# Altium footprint library Interface.PcbLib: 28 footprints (part 1 of 2)
Each footprint in its own frame and in the unit in brackets; x right, y up, seen from the top. Pads: shape width x height; smd on the part's side, far side on the other; paste and mask are expansions set on the pad; w line width, h text height; cw(c..) or ccw(c..) is an arc to the next point about the centre after c.
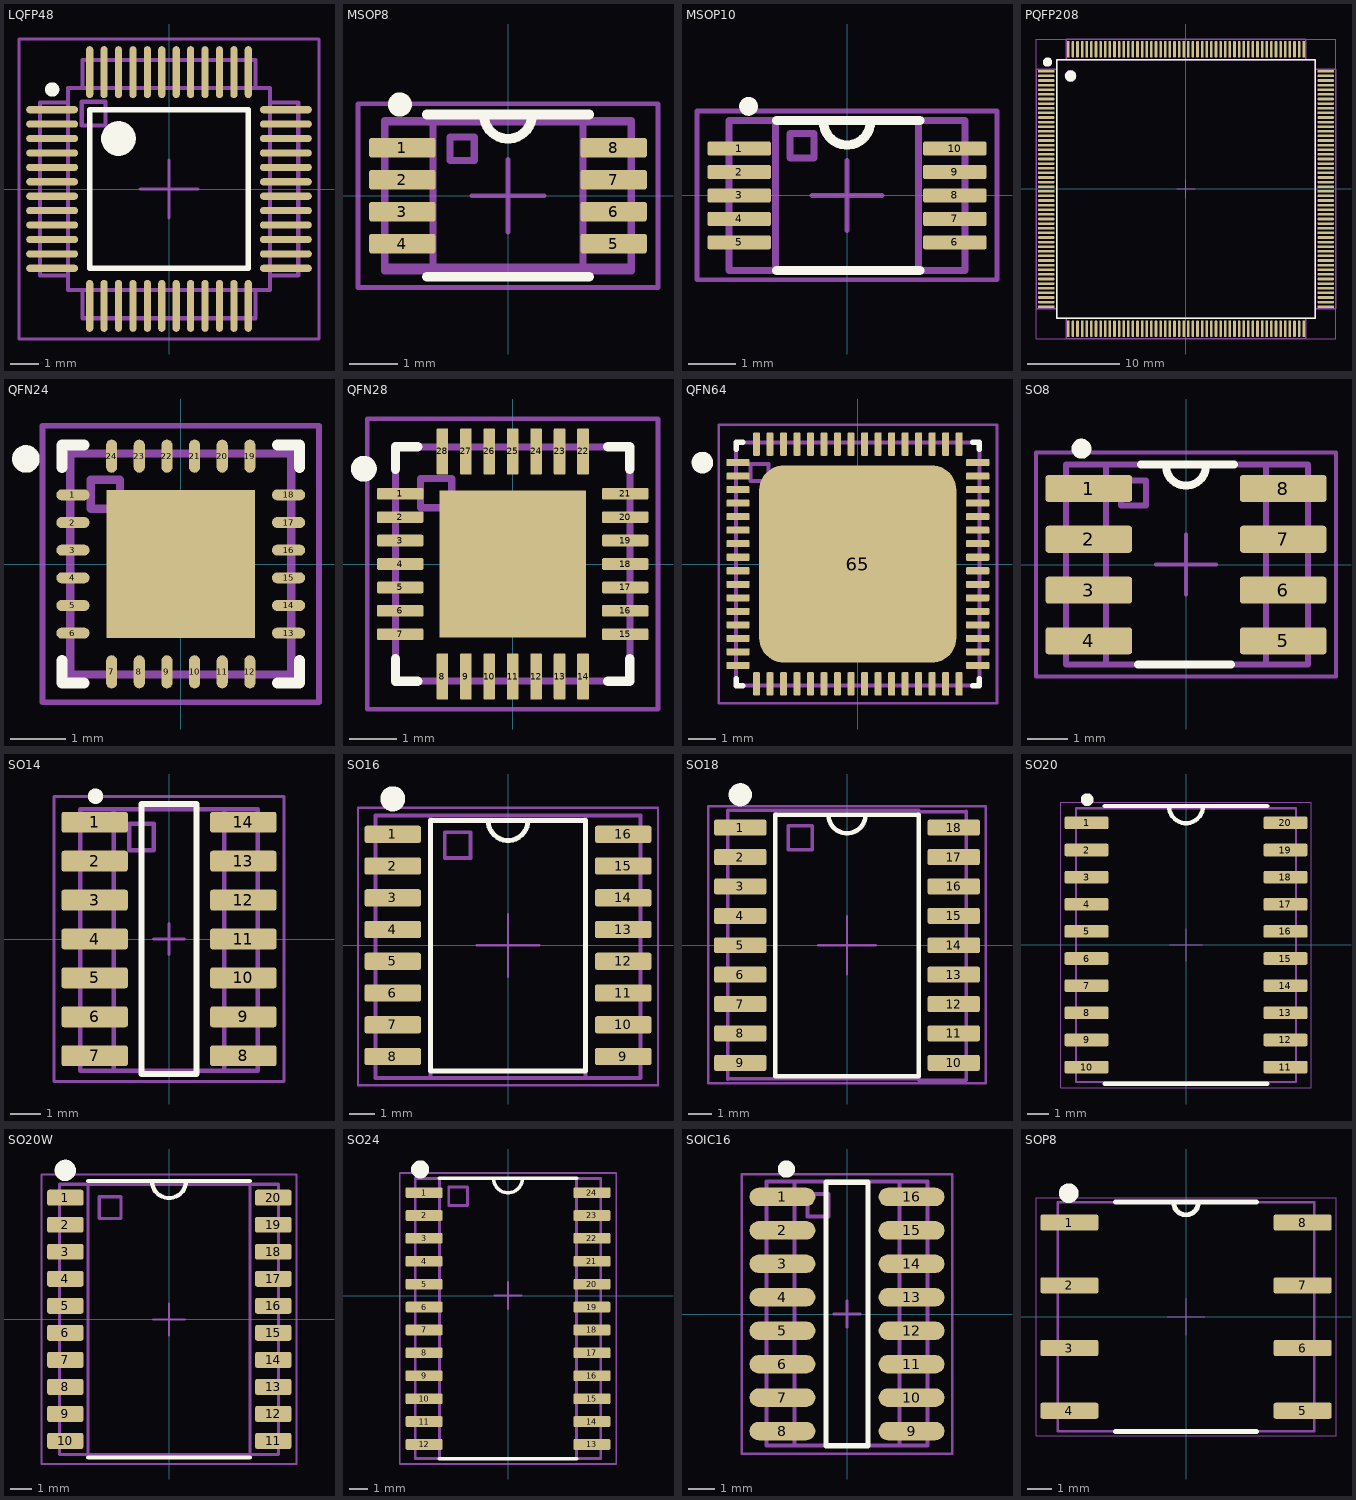
[diagram p0: the footprints below, top view; thin cyan lines are the x and y axes]

## LQFP48 [mm] "Thin QFP, 48-Leads, Body 7x7mm, Pitch 0.5mm, IPC Medium Density"
height 1.6
pads (48):
  oval 1.8x0.25 smd: 1(-4.05,2.75) 2(-4.05,2.25) 3(-4.05,1.75) 4(-4.05,1.25) 5(-4.05,0.75) 6(-4.05,0.25) 7(-4.05,-0.25) 8(-4.05,-0.75) 9(-4.05,-1.25) 10(-4.05,-1.75) 11(-4.05,-2.25) 12(-4.05,-2.75) 25(4.05,-2.75) 26(4.05,-2.25) 27(4.05,-1.75) 28(4.05,-1.25) 29(4.05,-0.75) 30(4.05,-0.25) 31(4.05,0.25) 32(4.05,0.75) 33(4.05,1.25) 34(4.05,1.75) 35(4.05,2.25) 36(4.05,2.75)
  oval 0.25x1.8 smd: 13(-2.75,-4.05) 14(-2.25,-4.05) 15(-1.75,-4.05) 16(-1.25,-4.05) 17(-0.75,-4.05) 18(-0.25,-4.05) 19(0.25,-4.05) 20(0.75,-4.05) 21(1.25,-4.05) 22(1.75,-4.05) 23(2.25,-4.05) 24(2.75,-4.05) 37(2.75,4.05) 38(2.25,4.05) 39(1.75,4.05) 40(1.25,4.05) 41(0.75,4.05) 42(0.25,4.05) 43(-0.25,4.05) 44(-0.75,4.05) 45(-1.25,4.05) 46(-1.75,4.05) 47(-2.25,4.05) 48(-2.75,4.05)
Top Overlay:
  circle w0.25: c-4.05,3.45 r0.125
  circle w0.6: c-1.75,1.75 r0.3
  lines w0.2: -2.75,-2.75 -2.75,2.75 2.75,2.75 2.75,-2.75 -2.75,-2.75
Mechanical 9:
  text ".Designator" at -4.55,6.35 h3.5
Mechanical 10:
  text ".Comment" at -2.65,-6.625 h2
Mechanical 11:
  lines w0.15: -3.5,-3 -4.475,-3 -4.475,3 -3.5,3 ; -3,-3.5 -3,-4.475 3,-4.475 3,-3.5 ; -3,3.5 -3,4.475 3,4.475 3,3.5 ; 3.5,-3 4.475,-3 4.475,3 3.5,3 ; -3.5,-3.5 3.5,-3.5 3.5,3.5 -3.5,3.5 -3.5,-3.5 ; -3.025,2.2 -2.2,2.2 -2.2,3.025 -3.025,3.025 -3.025,2.2
Mechanical 15:
  lines w0.1: -1,0 1,0 ; 0,-1 0,1 ; -5.2,-5.2 5.2,-5.2 5.2,5.2 -5.2,5.2 -5.2,-5.2
3D body "vbh48a.stp": height 1.46, standoff -0.04, extent -4.507,-4.507 4.508,4.508

## MSOP8 [mil]
pads (8):
  rrect25% 54x16 smd: 1(-86,39) 2(-86,13) 3(-86,-13) 4(-86,-39) 5(86,-39) 6(86,-13) 7(86,13) 8(86,39)
Top Overlay:
  circle w9.84: c-87.95,74.17 r4.92
  lines w7.87: -66,-66 66,-66 ; -66,66 66,66 ; -19.68,66 ccw(c0,66) 19.68,66
Mechanical 9:
  text ".Designator" at -137.8,108.27 h137.8
Mechanical 10:
  text ".Comment" at -98.43,-127.95 h78.74
Mechanical 11:
  lines w5.91: -61,-61 61,-61 ; -61,-61 -61,61 ; -61,-61 61,-61 ; -61,-61 -100.37,-61 -100.37,61 -61,61 ; -61,61 -12,61 ; -61,61 -12,61 ; -12,61 12,61 ; -12,61 12,61 ; 12,61 61,61 ; 12,61 61,61 ; 61,-61 61,61 ; 61,-61 61,61 ; 61,-61 100.37,-61 100.37,61 61,61 ; -100,-58.11 100,-58.11 100,60 -100,60 -100,-58.11 ; -47.24,28.54 -47.24,47.74 -27.56,47.74 -27.56,28.54 -47.24,28.54
Mechanical 15:
  lines w3.94: -29.53,0 29.53,0 ; 0,-29.53 0,29.53 ; -122.05,-74.8 -122.05,74.8 122.05,74.8 122.05,-74.8 -122.05,-74.8
3D body "User Library-uMAX8.STEP": height 37.4, standoff 0, extent -99.38,-58.1 97.5,60.01

## MSOP10 [mm]
height 0.9
pads (10):
  rrect25% 1.35x0.3 smd: 1(-2.3,1) 2(-2.3,0.5) 3(-2.3,0) 4(-2.3,-0.5) 5(-2.3,-1) 6(2.3,-1) 7(2.3,-0.5) 8(2.3,0) 9(2.3,0.5) 10(2.3,1)
Top Overlay:
  circle w0.2: c-2.1,1.9 r0.1
  lines w0.2: -1.5,-1.6 1.55,-1.6 ; -1.5,1.6 1.55,1.6 ; -0.5,1.575 ccw(c0,1.575) 0.5,1.575
Mechanical 9:
  text ".Designator" at -5.4,2.7 h3.5
Mechanical 10:
  text ".Comment" at -2.95,-3.4 h2
Mechanical 11:
  lines w0.15: -1.525,-1.6 -1.525,1.6 ; 1.525,-1.6 1.525,1.6 ; -2.515,-1.6 -2.515,1.6 2.515,1.6 2.515,-1.6 -2.515,-1.6 ; -1.213,0.8 -1.213,1.325 -0.7,1.325 -0.7,0.8 -1.213,0.8
Mechanical 15:
  lines w0.1: -0.75,0 0.75,0 ; 0,-0.75 0,0.75 ; -3.2,-1.8 -3.2,1.8 3.2,1.8 3.2,-1.8 -3.2,-1.8
3D body "User Library-MSOP10-1.step": height 1.09, standoff 0, extent -2.575,-1.6 2.575,1.6

## PQFP208 [mm] "Thin QFP, 48-Leads, Body 7x7mm, Pitch 0.5mm, IPC Medium Density"
height 1.6
pads (208):
  rrect25% 1.74x0.28 smd: 1(-15.14,12.75) 2(-15.14,12.25) 3(-15.14,11.75) 4(-15.14,11.25) 5(-15.14,10.75) 6(-15.14,10.25) 7(-15.14,9.75) 8(-15.14,9.25) 9(-15.14,8.75) 10(-15.14,8.25) 11(-15.14,7.75) 12(-15.14,7.25) 13(-15.14,6.75) 14(-15.14,6.25) 15(-15.14,5.75) 16(-15.14,5.25) 17(-15.14,4.75) 18(-15.14,4.25) 19(-15.14,3.75) 20(-15.14,3.25) 21(-15.14,2.75) 22(-15.14,2.25) 23(-15.14,1.75) 24(-15.14,1.25) 25(-15.14,0.75) 26(-15.14,0.25) 27(-15.14,-0.25) 28(-15.14,-0.75) 29(-15.14,-1.25) 30(-15.14,-1.75) 31(-15.14,-2.25) 32(-15.14,-2.75) 33(-15.14,-3.25) 34(-15.14,-3.75) 35(-15.14,-4.25) 36(-15.14,-4.75) 37(-15.14,-5.25) 38(-15.14,-5.75) 39(-15.14,-6.25) 40(-15.14,-6.75) 41(-15.14,-7.25) 42(-15.14,-7.75) 43(-15.14,-8.25) 44(-15.14,-8.75) 45(-15.14,-9.25) 46(-15.14,-9.75) 47(-15.14,-10.25) 48(-15.14,-10.75) 49(-15.14,-11.25) 50(-15.14,-11.75) 51(-15.14,-12.25) 52(-15.14,-12.75) 105(15.14,-12.75) 106(15.14,-12.25) 107(15.14,-11.75) 108(15.14,-11.25) 109(15.14,-10.75) 110(15.14,-10.25) 111(15.14,-9.75) 112(15.14,-9.25) 113(15.14,-8.75) 114(15.14,-8.25) 115(15.14,-7.75) 116(15.14,-7.25) 117(15.14,-6.75) 118(15.14,-6.25) 119(15.14,-5.75) 120(15.14,-5.25) 121(15.14,-4.75) 122(15.14,-4.25) 123(15.14,-3.75) 124(15.14,-3.25) 125(15.14,-2.75) 126(15.14,-2.25) 127(15.14,-1.75) 128(15.14,-1.25) 129(15.14,-0.75) 130(15.14,-0.25) 131(15.14,0.25) 132(15.14,0.75) 133(15.14,1.25) 134(15.14,1.75) 135(15.14,2.25) 136(15.14,2.75) 137(15.14,3.25) 138(15.14,3.75) 139(15.14,4.25) 140(15.14,4.75) 141(15.14,5.25) 142(15.14,5.75) 143(15.14,6.25) 144(15.14,6.75) 145(15.14,7.25) 146(15.14,7.75) 147(15.14,8.25) 148(15.14,8.75) 149(15.14,9.25) 150(15.14,9.75) 151(15.14,10.25) 152(15.14,10.75) 153(15.14,11.25) 154(15.14,11.75) 155(15.14,12.25) 156(15.14,12.75)
  rrect25% 0.28x1.74 smd: 53(-12.75,-15.14) 54(-12.25,-15.14) 55(-11.75,-15.14) 56(-11.25,-15.14) 57(-10.75,-15.14) 58(-10.25,-15.14) 59(-9.75,-15.14) 60(-9.25,-15.14) 61(-8.75,-15.14) 62(-8.25,-15.14) 63(-7.75,-15.14) 64(-7.25,-15.14) 65(-6.75,-15.14) 66(-6.25,-15.14) 67(-5.75,-15.14) 68(-5.25,-15.14) 69(-4.75,-15.14) 70(-4.25,-15.14) 71(-3.75,-15.14) 72(-3.25,-15.14) 73(-2.75,-15.14) 74(-2.25,-15.14) 75(-1.75,-15.14) 76(-1.25,-15.14) 77(-0.75,-15.14) 78(-0.25,-15.14) 79(0.25,-15.14) 80(0.75,-15.14) 81(1.25,-15.14) 82(1.75,-15.14) 83(2.25,-15.14) 84(2.75,-15.14) 85(3.25,-15.14) 86(3.75,-15.14) 87(4.25,-15.14) 88(4.75,-15.14) 89(5.25,-15.14) 90(5.75,-15.14) 91(6.25,-15.14) 92(6.75,-15.14) 93(7.25,-15.14) 94(7.75,-15.14) 95(8.25,-15.14) 96(8.75,-15.14) 97(9.25,-15.14) 98(9.75,-15.14) 99(10.25,-15.14) 100(10.75,-15.14) 101(11.25,-15.14) 102(11.75,-15.14) 103(12.25,-15.14) 104(12.75,-15.14) 157(12.75,15.14) 158(12.25,15.14) 159(11.75,15.14) 160(11.25,15.14) 161(10.75,15.14) 162(10.25,15.14) 163(9.75,15.14) 164(9.25,15.14) 165(8.75,15.14) 166(8.25,15.14) 167(7.75,15.14) 168(7.25,15.14) 169(6.75,15.14) 170(6.25,15.14) 171(5.75,15.14) 172(5.25,15.14) 173(4.75,15.14) 174(4.25,15.14) 175(3.75,15.14) 176(3.25,15.14) 177(2.75,15.14) 178(2.25,15.14) 179(1.75,15.14) 180(1.25,15.14) 181(0.75,15.14) 182(0.25,15.14) 183(-0.25,15.14) 184(-0.75,15.14) 185(-1.25,15.14) 186(-1.75,15.14) 187(-2.25,15.14) 188(-2.75,15.14) 189(-3.25,15.14) 190(-3.75,15.14) 191(-4.25,15.14) 192(-4.75,15.14) 193(-5.25,15.14) 194(-5.75,15.14) 195(-6.25,15.14) 196(-6.75,15.14) 197(-7.25,15.14) 198(-7.75,15.14) 199(-8.25,15.14) 200(-8.75,15.14) 201(-9.25,15.14) 202(-9.75,15.14) 203(-10.25,15.14) 204(-10.75,15.14) 205(-11.25,15.14) 206(-11.75,15.14) 207(-12.25,15.14) 208(-12.75,15.14)
Top Overlay:
  circle w0.6: c-12.5,12.25 r0.3
  circle w0.6: c-15,13.75 r0.2
  lines w0.2: -14,-14 -14,14 14,14 14,-14 -14,-14
Mechanical 7:
  circle w0.15: c-12.5,12.25 r0.559
  circle w0.15: c-12.5,12.25 r0.559
  lines w0.15: -14,-13 -16.25,-13 -16.25,13 -14,13 ; -13,-14 -13,-16.25 13,-16.25 13,-14 ; -13,14 -13,16.25 13,16.25 13,14 ; 14,-13 16.25,-13 16.25,13 14,13 ; -14,-14 -14,14 ; -14,-14 14,-14 ; -14,-14 -14,14 ; -14,-14 14,-14 ; -14,14 14,14 ; -14,14 14,14 ; 14,-14 14,14 ; 14,-14 14,14
Mechanical 9:
  text ".Designator" at -5.25,17.75 h3
Mechanical 10:
  text ".Comment" at -3.75,-18.25 h2
Mechanical 15:
  lines w0.1: -1,0 1,0 ; 0,-1 0,1 ; -16.25,-16.25 -16.25,16.25 16.25,16.25 16.25,-16.25 -16.25,-16.25
3D body "User Library-PQ208.STEP": height 4.15, standoff -0.08, extent -15.3,-15.3 15.3,15.3

## QFN24 [mm]
height 0.8
pads (25):
  oval 0.6x0.2 smd: 1(-1.95,1.25) 2(-1.95,0.75) 3(-1.95,0.25) 4(-1.95,-0.25) 5(-1.95,-0.75) 6(-1.95,-1.25) 13(1.95,-1.25) 14(1.95,-0.75) 15(1.95,-0.25) 16(1.95,0.25) 17(1.95,0.75) 18(1.95,1.25)
  oval 0.2x0.6 smd: 7(-1.25,-1.95) 8(-0.75,-1.95) 9(-0.25,-1.95) 10(0.25,-1.95) 11(0.75,-1.95) 12(1.25,-1.95) 19(1.25,1.95) 20(0.75,1.95) 21(0.25,1.95) 22(-0.25,1.95) 23(-0.75,1.95) 24(-1.25,1.95)
  rect 2.68x2.68 smd: ""(0,0)
Top Overlay:
  circle w0.25: c-2.8,1.9 r0.125
  lines w0.2: -2.15,-1.75 -2.15,-2.15 -1.75,-2.15 ; -2.15,1.75 -2.15,2.15 -1.75,2.15 ; 1.75,-2.15 2.15,-2.15 2.15,-1.75 ; 1.75,2.15 2.15,2.15 2.15,1.75
Mechanical 9:
  text ".Designator" at -4.4,3.2 h3.5
Mechanical 10:
  text ".Comment" at -2.675,-3.9 h2
Mechanical 11:
  lines w0.15: -2,-2 -2,2 2,2 2,-2 -2,-2 ; -1.625,1 -1.1,1 -1.1,1.525 -1.625,1.525 -1.625,1
Mechanical 15:
  lines w0.1: -0.5,0 0.5,0 ; 0,-0.5 0,0.5 ; -2.5,-2.5 -2.5,2.5 2.5,2.5 2.5,-2.5 -2.5,-2.5
3D body "User Library-QFN24_4x4x0_75_p0_5.step": height 0.75, standoff 0, extent -2.002,-2.002 2.002,2.002

## QFN28 [mm] "QFN, 28-Leads, Body 5,0x5,0mm (max), Pitch 0,50mm, IPC Medium Density"
height 1
pads (29):
  rrect25% 0.99x0.25 smd: 1(-2.4,1.5) 2(-2.4,1) 3(-2.4,0.5) 4(-2.4,0) 5(-2.4,-0.5) 6(-2.4,-1) 7(-2.4,-1.5) 15(2.4,-1.5) 16(2.4,-1) 17(2.4,-0.5) 18(2.4,0) 19(2.4,0.5) 20(2.4,1) 21(2.4,1.5)
  rrect25% 0.25x0.99 smd: 8(-1.5,-2.4) 9(-1,-2.4) 10(-0.5,-2.4) 11(0,-2.4) 12(0.5,-2.4) 13(1,-2.4) 14(1.5,-2.4) 22(1.5,2.4) 23(1,2.4) 24(0.5,2.4) 25(0,2.4) 26(-0.5,2.4) 27(-1,2.4) 28(-1.5,2.4)
  rect 3.13x3.13 smd: ""(0,0)
Top Overlay:
  circle w0.3: c-3.175,2.032 r0.125
  lines w0.2: -2.5,-2.025 -2.5,-2.5 -2.025,-2.5 ; -2.5,2.025 -2.5,2.5 -2.025,2.5 ; 2.025,-2.5 2.5,-2.5 2.5,-2.025 ; 2.025,2.5 2.5,2.5 2.5,2.025
Mechanical 9:
  text ".Designator" at -4.9,3.5 h3.5
Mechanical 10:
  text ".Comment" at -3.1,-4.5 h2
Mechanical 11:
  lines w0.15: -2.5,-2.5 -2.5,2.5 2.5,2.5 2.5,-2.5 -2.5,-2.5 ; -1.963,1.2 -1.963,1.825 -1.3,1.825 -1.3,1.2 -1.963,1.2
Mechanical 15:
  lines w0.1: -0.5,0 0.5,0 ; 0,-0.5 0,0.5 ; -3.1,-3.1 -3.1,3.1 3.1,3.1 3.1,-3.1 -3.1,-3.1
3D body "User Library-QFN28.step": height 0.9, standoff 0, extent -2.52,-2.52 2.52,2.52

## QFN64 [mm] "QFN, 28-Leads, Body 5,0x5,0mm (max), Pitch 0,50mm, IPC Medium Density"
height 1
pads (65):
  rrect25% 0.86x0.26 smd: 1(-4.435,3.75) 2(-4.435,3.25) 3(-4.435,2.75) 4(-4.435,2.25) 5(-4.435,1.75) 6(-4.435,1.25) 7(-4.435,0.75) 8(-4.435,0.25) 9(-4.435,-0.25) 10(-4.435,-0.75) 11(-4.435,-1.25) 12(-4.435,-1.75) 13(-4.435,-2.25) 14(-4.435,-2.75) 15(-4.435,-3.25) 16(-4.435,-3.75) 33(4.435,-3.75) 34(4.435,-3.25) 35(4.435,-2.75) 36(4.435,-2.25) 37(4.435,-1.75) 38(4.435,-1.25) 39(4.435,-0.75) 40(4.435,-0.25) 41(4.435,0.25) 42(4.435,0.75) 43(4.435,1.25) 44(4.435,1.75) 45(4.435,2.25) 46(4.435,2.75) 47(4.435,3.25) 48(4.435,3.75)
  rrect25% 0.26x0.86 smd: 17(-3.75,-4.435) 18(-3.25,-4.435) 19(-2.75,-4.435) 20(-2.25,-4.435) 21(-1.75,-4.435) 22(-1.25,-4.435) 23(-0.75,-4.435) 24(-0.25,-4.435) 25(0.25,-4.435) 26(0.75,-4.435) 27(1.25,-4.435) 28(1.75,-4.435) 29(2.25,-4.435) 30(2.75,-4.435) 31(3.25,-4.435) 32(3.75,-4.435) 49(3.75,4.435) 50(3.25,4.435) 51(2.75,4.435) 52(2.25,4.435) 53(1.75,4.435) 54(1.25,4.435) 55(0.75,4.435) 56(0.25,4.435) 57(-0.25,4.435) 58(-0.75,4.435) 59(-1.25,4.435) 60(-1.75,4.435) 61(-2.25,4.435) 62(-2.75,4.435) 63(-3.25,4.435) 64(-3.75,4.435)
  rrect25% 7.3x7.3 smd: 65(0,0)
Top Overlay:
  circle w0.4: c-5.75,3.75 r0.2
  lines w0.2: -4.5,-4.25 -4.5,-4.5 -4.25,-4.5 ; -4.5,4.25 -4.5,4.5 -4.25,4.5 ; 4.25,-4.5 4.5,-4.5 4.5,-4.25 ; 4.25,4.5 4.5,4.5 4.5,4.25
Top Paste:
  region: 1.565,-1.56 3.12,-1.56 3.12,-3.129 1.565,-3.129
  region: -0.782,-1.56 0.78,-1.56 0.78,-3.128 -0.782,-3.128
  region: -3.126,-1.56 -1.56,-1.56 -1.56,-3.126 -3.126,-3.126
  region: -3.125,3.12 -1.56,3.12 -1.56,1.563 -3.125,1.563
  region: -0.783,3.12 0.78,3.12 0.78,1.566 -0.783,1.566
  region: 1.566,3.12 3.12,3.12 3.12,1.566 1.566,1.566
  region: 1.565,0.78 3.12,0.78 3.12,-0.782 1.565,-0.782
  region: -3.124,0.78 -1.56,0.78 -1.56,-0.781 -3.124,-0.781
  region: -0.783,0.78 0.78,0.78 0.78,-0.783 -0.783,-0.783
Mechanical 7:
  lines w0.15: -4.5,-4.5 -4.5,4.5 ; -4.5,-4.5 4.5,-4.5 ; -4.5,-4.5 -4.5,4.5 ; -4.5,-4.5 4.5,-4.5 ; -4.5,4.5 4.5,4.5 ; -4.5,4.5 4.5,4.5 ; 4.5,-4.5 4.5,4.5 ; 4.5,-4.5 4.5,4.5 ; -3.963,3.075 -3.3,3.075 -3.3,3.7 -3.963,3.7 -3.963,3.075
Mechanical 9:
  text ".Designator" at -5,6.25 h3.5
Mechanical 10:
  text ".Comment" at -3,-7 h2
Mechanical 15:
  lines w0.1: -5.15,-5.15 -5.15,5.15 5.15,5.15 5.15,-5.15 -5.15,-5.15
3D body "User Library-ZM7300G Series.step": height 0.9, standoff 0, extent -4.49,-4.53 4.53,4.49

## SO8 [mm]
height 1.75
pads (8):
  rrect25% 2.17x0.68 smd: 1(-2.43,1.905) 2(-2.43,0.635) 3(-2.43,-0.635) 4(-2.43,-1.905) 5(2.43,-1.905) 6(2.43,-0.635) 7(2.43,0.635) 8(2.43,1.905)
Top Overlay:
  circle w0.25: c-2.615,2.9 r0.125
  lines w0.2: -1.2,-2.5 1.125,-2.5 ; -1.125,2.5 1.2,2.5 ; -0.5,2.475 ccw(c0,2.475) 0.5,2.475
Mechanical 9:
  text ".Designator" at -4.25,3.5 h3.5
Mechanical 10:
  text ".Comment" at -2.75,-4 h2
Mechanical 11:
  lines w0.15: -2,-2.5 -2,2.5 ; 2,-2.5 2,2.5 ; -3,-2.5 -3,2.5 3.05,2.5 3.05,-2.5 -3,-2.5 ; -1.625,1.475 -1,1.475 -1,2.1 -1.625,2.1 -1.625,1.475
Mechanical 15:
  lines w0.1: -0.75,0 0.75,0 ; 0,-0.75 0,0.75 ; -3.75,-2.8 3.75,-2.8 3.75,2.8 -3.75,2.8 -3.75,-2.8
3D body "SOIC-8.STEP": height 1.7, standoff 0, extent -3,-2.54 3,2.54

## SO14 [mm] "SOIC, 14-Leads, Body 8,65x3,90mm, Pitch 1,27mm, IPC Medium Density"
height 1.75
pads (14):
  rrect25% 2.17x0.68 smd: 1(-2.425,3.81) 2(-2.425,2.54) 3(-2.425,1.27) 4(-2.425,0) 5(-2.425,-1.27) 6(-2.425,-2.54) 7(-2.425,-3.81) 8(2.425,-3.81) 9(2.425,-2.54) 10(2.425,-1.27) 11(2.425,0) 12(2.425,1.27) 13(2.425,2.54) 14(2.425,3.81)
Top Overlay:
  circle w0.25: c-2.4,4.66 r0.125
  lines w0.2: -0.9,-4.4 0.9,-4.4 0.9,4.4 -0.9,4.4 -0.9,-4.4
Mechanical 9:
  text ".Designator" at -4.8,5.8 h3.5
Mechanical 10:
  text ".Comment" at -2.9,-6.3 h2
Mechanical 11:
  lines w0.15: -1.8,-4.3 -1.8,4.235 ; 1.8,-4.3 1.8,4.235 ; -2.9,-4.3 -2.9,4.235 2.9,4.235 2.9,-4.3 -2,-4.3 -2.9,-4.3 ; -1.3,2.9 -1.3,3.76 -0.5,3.76 -0.5,2.9 -1.3,2.9
Mechanical 15:
  lines w0.1: -0.5,0 0.5,0 ; 0,-0.5 0,0.5 ; -3.75,-4.65 -3.75,4.65 3.75,4.65 3.75,-4.65 -3.75,-4.65
3D body "User Library-SOIC14-150.step": height 1.75, standoff 0, extent -2.9,-4.275 2.9,4.275

## SO16 [mm]
height 1.75
pads (16):
  rrect25% 2.26x0.69 smd: 1(-4.61,4.445) 2(-4.61,3.175) 3(-4.61,1.905) 4(-4.61,0.635) 5(-4.61,-0.635) 6(-4.61,-1.905) 7(-4.61,-3.175) 8(-4.61,-4.445) 9(4.61,-4.445) 10(4.61,-3.175) 11(4.61,-1.905) 12(4.61,-0.635) 13(4.61,0.635) 14(4.61,1.905) 15(4.61,3.175) 16(4.61,4.445)
Top Overlay:
  circle w0.5: c-4.61,5.865 r0.25
  lines w0.2: -0.8,5 ccw(c0,5) 0.8,5 ; -3.1,-5.03 -3.1,5 3.1,5 3.1,-5.03 -3.1,-5.03
Mechanical 9:
  text ".Designator" at -5.5,6.365 h3.5
Mechanical 10:
  text ".Comment" at -3.1,-7.9 h2
Mechanical 11:
  lines w0.15: -3.1,-5.3 -5.3,-5.3 -5.3,5.2 -3.1,5.2 ; -3.1,-5.3 -3.1,5.2 ; -3.1,-5.3 3.1,-5.3 ; -3.1,5.2 3.1,5.2 ; 3.1,-5.3 3.1,5.2 ; 3.1,-5.3 5.3,-5.3 5.3,5.2 3.1,5.2 ; -2.531,3.5 -2.531,4.525 -1.5,4.525 -1.5,3.5 -2.531,3.5
Mechanical 15:
  lines w0.1: -1.25,0 1.25,0 ; 0,-1.25 0,1.25 ; -6,-5.6 6,-5.6 6,5.5 -6,5.5 -6,-5.6
3D body "User Library-SOIC-16-300.STEP": height 2.59, standoff -0.01, extent -5.3,-5.275 5.3,5.225

## SO18 [mm]
height 1.75
pads (18):
  rrect25% 2.26x0.69 smd: 1(-4.61,5.08) 2(-4.61,3.81) 3(-4.61,2.54) 4(-4.61,1.27) 5(-4.61,0) 6(-4.61,-1.27) 7(-4.61,-2.54) 8(-4.61,-3.81) 9(-4.61,-5.08) 10(4.61,-5.08) 11(4.61,-3.81) 12(4.61,-2.54) 13(4.61,-1.27) 14(4.61,0) 15(4.61,1.27) 16(4.61,2.54) 17(4.61,3.81) 18(4.61,5.08)
Top Overlay:
  circle w0.5: c-4.61,6.5 r0.25
  lines w0.2: -0.8,5.635 ccw(c0,5.635) 0.8,5.635 ; -3.1,-5.665 3.1,-5.665 3.1,5.635 -3.1,5.635 -3.1,-5.665
Mechanical 9:
  text ".Designator" at -5.5,7 h3.5
Mechanical 10:
  text ".Comment" at -3.1,-7.265 h2
Mechanical 11:
  lines w0.15: 3.1,-5.835 5.15,-5.835 5.15,5.79 5.125,5.765 3.1,5.765 ; -3.1,-5.765 3.1,-5.765 3.1,5.835 -3.1,5.835 ; -3.1,-5.765 -3.1,5.835 ; -3.1,-5.765 -5.125,-5.765 -5.15,-5.79 -5.15,5.835 -3.1,5.835 ; -2.531,4.135 -1.5,4.135 -1.5,5.16 -2.531,5.16 -2.531,4.135
Mechanical 15:
  lines w0.1: -1.25,0 1.25,0 ; 0,-1.25 0,1.25 ; -6,-5.965 -6,6 6,6 6,-5.965 -6,-5.965
3D body "User Library-SO-18W.STEP": height 2.48, standoff 0, extent -5.155,-5.78 5.155,5.8

## SO20 [mm]
pads (20):
  rrect25% 2.05x0.59 smd: 1(-4.655,5.715) 2(-4.655,4.445) 3(-4.655,3.175) 4(-4.655,1.905) 5(-4.655,0.635) 6(-4.655,-0.635) 7(-4.655,-1.905) 8(-4.655,-3.175) 9(-4.655,-4.445) 10(-4.655,-5.715) 11(4.655,-5.715) 12(4.655,-4.445) 13(4.655,-3.175) 14(4.655,-1.905) 15(4.655,-0.635) 16(4.655,0.635) 17(4.655,1.905) 18(4.655,3.175) 19(4.655,4.445) 20(4.655,5.715)
Top Overlay:
  circle w0.3: c-4.625,6.8 r0.15
  lines w0.2: -3.8,-6.5 3.8,-6.5 ; -3.8,6.5 3.8,6.5 ; -0.8,6.5 ccw(c0,6.5) 0.8,6.5
Mechanical 13:
  lines w0.1: -5.15,-6.404 5.15,-6.404 5.15,6.4 -5.15,6.4 -5.15,-6.404
Mechanical 15:
  lines w0.05: -0.75,0 0.75,0 ; 0,-0.75 0,0.75 ; -5.85,-6.675 5.85,-6.675 5.85,6.675 -5.85,6.675 -5.85,-6.675
3D body "User Library-SO-20W.STEP": height 2.48, standoff 0, extent -5.155,-6.41 5.155,6.41

## SO20W [mm]
pads (20):
  rrect25% 1.7x0.75 smd: 1(-4.875,5.715) 2(-4.875,4.445) 3(-4.875,3.175) 4(-4.875,1.905) 5(-4.875,0.635) 6(-4.875,-0.635) 7(-4.875,-1.905) 8(-4.875,-3.175) 9(-4.875,-4.445) 10(-4.875,-5.715) 11(4.9,-5.715) 12(4.9,-4.445) 13(4.9,-3.175) 14(4.9,-1.905) 15(4.9,-0.635) 16(4.9,0.635) 17(4.9,1.905) 18(4.9,3.175) 19(4.9,4.445) 20(4.9,5.715)
Top Overlay:
  circle w0.5: c-4.875,7 r0.25
  lines w0.2: -3.8,-6.5 3.8,-6.5 ; -3.8,6.5 3.8,6.5 ; -0.8,6.5 ccw(c0,6.5) 0.8,6.5
Mechanical 9:
  text ".Designator" at -5.5,7.75 h3.5
Mechanical 10:
  text ".Comment" at -3,-8.25 h2
Mechanical 11:
  lines w0.15: -3.8,-6.35 -5.15,-6.35 -5.15,6.35 -3.8,6.35 ; -3.8,-6.35 -3.8,6.35 ; -3.8,-6.35 3.8,-6.35 ; -3.8,6.35 3.8,6.35 ; 3.8,-6.35 5.15,-6.35 5.15,6.35 3.8,6.35 ; 3.8,-6.35 3.8,6.35 ; -3.281,4.737 -2.25,4.737 -2.25,5.762 -3.281,5.762 -3.281,4.737
Mechanical 15:
  lines w0.1: -0.75,0 0.75,0 ; 0,-0.75 0,0.75 ; -6,-6.8 -6,6.8 6,6.8 6,-6.8 -6,-6.8
3D body "User Library-SO-20W.STEP": height 2.48, standoff 0, extent -5.155,-6.41 5.155,6.41

## SO24 [mm]
pads (24):
  rrect25% 2.05x0.59 smd: 1(-4.655,5.715) 2(-4.655,4.445) 3(-4.655,3.175) 4(-4.655,1.905) 5(-4.655,0.635) 6(-4.655,-0.635) 7(-4.655,-1.905) 8(-4.655,-3.175) 9(-4.655,-4.445) 10(-4.655,-5.715) 11(-4.655,-6.985) 12(-4.655,-8.255) 13(4.655,-8.255) 14(4.655,-6.985) 15(4.655,-5.715) 16(4.655,-4.445) 17(4.655,-3.175) 18(4.655,-1.905) 19(4.655,-0.635) 20(4.655,0.635) 21(4.655,1.905) 22(4.655,3.175) 23(4.655,4.445) 24(4.655,5.715)
Top Overlay:
  circle w0.5: c-4.875,7 r0.25
  lines w0.2: -3.8,-9.04 3.8,-9.04 ; -3.8,6.5 3.8,6.5 ; -0.8,6.5 ccw(c0,6.5) 0.8,6.5
Mechanical 9:
  text ".Designator" at -5.5,7.75 h3.5
Mechanical 10:
  text ".Comment" at -3.5,-11 h2
Mechanical 11:
  lines w0.15: -3.8,-9.04 -5.15,-9.04 -5.15,6.5 -3.8,6.5 ; -3.8,-9.04 3.8,-9.04 ; -3.8,-9.04 3.8,-9.04 ; -3.8,-9.04 -3.8,6.5 ; -3.8,-9.04 -3.8,6.5 ; -3.8,-9.04 -3.8,6.5 ; -3.8,6.5 3.8,6.5 ; -3.8,6.5 3.8,6.5 ; 3.8,-9.04 5.15,-9.04 5.15,6.5 3.8,6.5 ; 3.8,-9.04 3.8,6.5 ; 3.8,-9.04 3.8,6.5 ; 3.8,-9.04 3.8,6.5 ; 3.8,-9.04 3.8,6.5 ; 3.8,-9.04 3.8,6.5 ; -3.281,5 -2.25,5 -2.25,6.025 -3.281,6.025 -3.281,5
Mechanical 15:
  lines w0.1: -0.75,0 0.75,0 ; 0,-0.75 0,0.75 ; -6,-9.34 6,-9.34 6,6.8 -6,6.8 -6,-9.34
3D body "User Library-SOIC_24.STEP": height 2.6, standoff 0, extent -5.2,-9.085 5.2,6.315

## SOIC16 [mm] "16-Pin Small Outline Integrated Circuit 1.27 mm Pitch, IPC Low Density"
height 1.75
pads (16):
  oval 2.5x0.7 smd: 1(-2.45,4.445) 2(-2.45,3.175) 3(-2.45,1.905) 4(-2.45,0.635) 5(-2.45,-0.635) 6(-2.45,-1.905) 7(-2.45,-3.175) 8(-2.45,-4.445) 9(2.45,-4.445) 10(2.45,-3.175) 11(2.45,-1.905) 12(2.45,-0.635) 13(2.45,0.635) 14(2.45,1.905) 15(2.45,3.175) 16(2.45,4.445)
Top Overlay:
  circle w0.4: c-2.3,5.5 r0.125
  lines w0.2: -0.8,-5 -0.8,5 0.8,5 0.8,-5 -0.8,-5
Mechanical 9:
  text ".Designator" at -4.5,6.6 h3.5
Mechanical 10:
  text ".Comment" at -2.9,-7.1 h2
Mechanical 11:
  lines w0.15: -2,5.035 -2,-5 ; 2,-5 2,5.035 ; -2,-5 -3.05,-5 -3.05,5.035 3.05,5.035 3.05,-5 -2,-5 ; -1.5,3.7 -1.5,4.56 -0.7,4.56 -0.7,3.7 -1.5,3.7
Mechanical 15:
  lines w0.1: -0.5,0 0.5,0 ; 0,-0.5 0,0.5 ; -4,-5.3 -4,5.3 4,5.3 4,-5.3 -4,-5.3
3D body "so16-1 (SOT109-1).STEP": height 1.78, standoff 0.01, extent -3.068,-4.985 3.068,4.985

## SOP8 [mm]
height 1.75
pads (8):
  rrect25% 2.35x0.65 smd: 1(-4.725,3.81) 2(-4.725,1.27) 3(-4.725,-1.27) 4(-4.725,-3.81) 5(4.725,-3.81) 6(4.725,-1.27) 7(4.725,1.27) 8(4.725,3.81)
Top Overlay:
  circle w0.4: c-4.75,5 r0.2
  lines w0.2: -2.851,-4.643 2.851,-4.643 ; -2.851,4.643 2.851,4.643 ; -0.5,4.625 ccw(c0,4.625) 0.5,4.625
Mechanical 13:
  lines w0.1: -5.2,-4.643 5.2,-4.643 5.2,4.643 -5.2,4.643 -5.2,-4.643
Mechanical 15:
  lines w0.05: -0.75,0 0.75,0 ; 0,-0.75 0,0.75 ; -6.075,-4.825 6.075,-4.825 6.075,4.818 -6.075,4.818 -6.075,-4.825
3D body "ISO1050DUB.STEP": height 4.85, standoff 0, extent -5.2,-4.643 5.2,4.643